# EAGLE library part CON-IDC08 (library Namenlos)
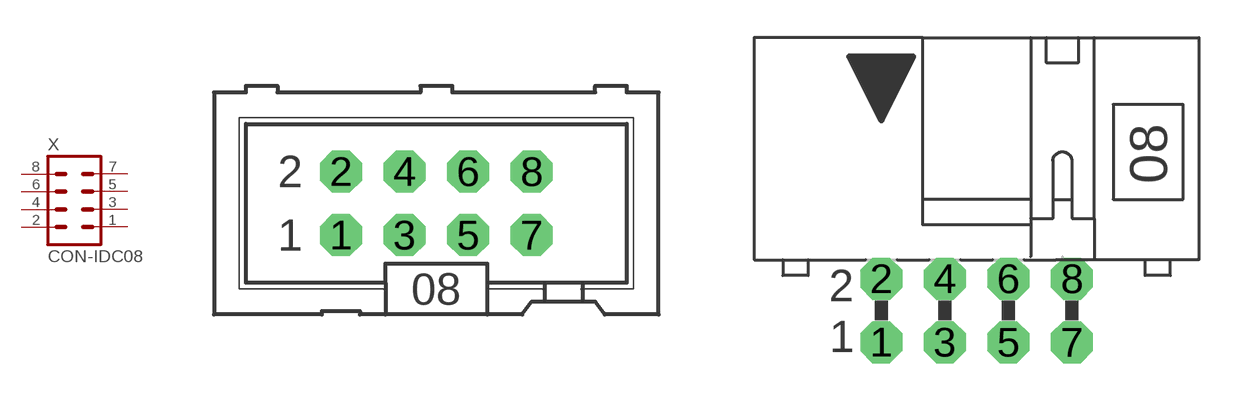
[diagram p43: symbol with the pads of ML08; footprints ML08, ML08L]

Designator prefix X

## CON-IDC08ML08  [ML08]
1  1  pas
2  2  pas
3  3  pas
4  4  pas
5  5  pas
6  6  pas
7  7  pas
8  8  pas

## CON-IDC08ML08L  [ML08L]
Pads as for ML08

## Footprint ML08 (pad centres in mm)
drill 1.1 pad 1.676 octagon: 1 -3.81,-1.27; 2 -3.81,1.27; 3 -1.27,-1.27; 4 -1.27,1.27; 5 1.27,-1.27; 6 1.27,1.27; 7 3.81,-1.27; 8 3.81,1.27

## Footprint ML08L (pad centres in mm)
drill 1.1 pad 1.676 octagon: 1 -3.81,-1.27; 2 -3.81,1.27; 3 -1.27,-1.27; 4 -1.27,1.27; 5 1.27,-1.27; 6 1.27,1.27; 7 3.81,-1.27; 8 3.81,1.27